# Altium integrated library Analog Devices Data Converters Analog-to-Digital Converters.IntLib: 2400 symbols (part 279 of 338)
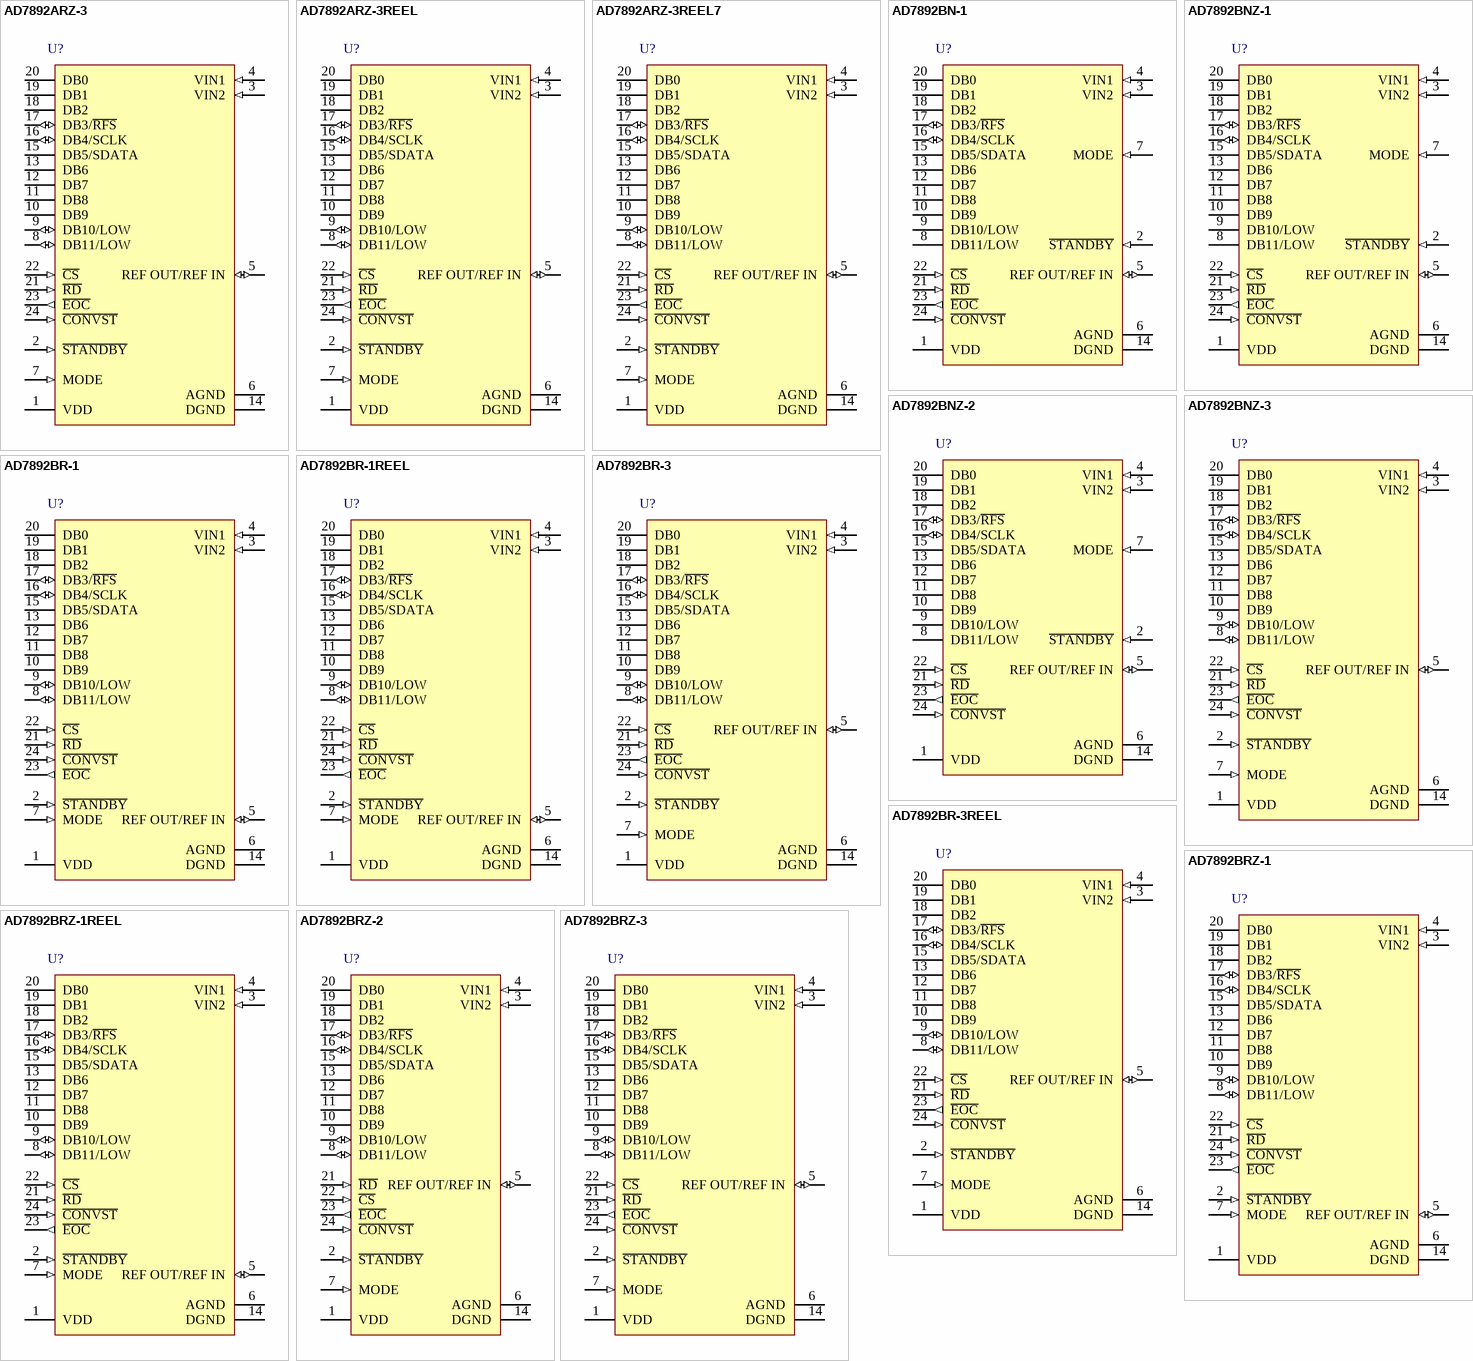
[diagram p407: symbols AD7892ARZ-3 to AD7892BRZ-3]

## AD7892BR-3
designator U?
Single 12-Bit Analog-to-Digital Converter with Parallel, Serial Interface, Single Supply, LC2MOS, 600KSPS, -40 to +85 degC, RW-24, Tube; Part Number: AD7892-3-600; Manufacturer: Analog Devices; Resolution (Bits): 12; Channels: 1; Throughput Rate (SPS): 600K; Interface: Par, Ser; DatasheetVersion: Rev.C; PackageVersion: 060706-A; PackageReference: RW-24; PackageDescription: 24-Lead Standard Small Outline Package [SOIC_W]; RoHS: N; Packing: Tube; Mounting Technology: Surface Mount; Code_JEDEC: MS-013-AD; ComponentLink1Description: Manufacturer URL; ComponentLink1URL: http://www.analog.com/en/index.html; ComponentLink2Description: Datasheet; ComponentLink2URL: http://www.analog.com/static/imported-files/data_sheets/AD7892.pdf; ComponentLink3Description: Package Specification; ComponentLink3URL: http://www.analog.com/static/imported-files/packages/33665150946139RW_24.pdf; ComponentLink4Description: Product URL; ComponentLink4URL: http://www.analog.com/en/analog-to-digital-converters/ad-converters/ad7892/products/product.html
footprint RW-24_N (SOIC, 24-Leads, Body 15.4x7.5mm, Pitch 1.27mm, IPC Medium Density)
footprint RW-24_L (SOIC, 24-Leads, Body 15.4x7.5mm, Pitch 1.27mm, IPC High Density)
footprint RW-24_M (SOIC, 24-Leads, Body 15.4x7.5mm, Pitch 1.27mm, IPC Low Density)
pins: 1 VDD (power) "Positive Supply Voltage, +5 V +/- 5%.", 2 ~{STANDBY} (in) "Standby Input. Logic Input. With this input at a logic high, the part is in its normal operating mode; with this input at a logic low, the part is placed in its standby or power-down mode, which reduces power consumption to (See Datasheet)", 3 VIN2 (in) "Analog Input 2. For the AD7892-1, this input either connects to AGND or to VIN1 to determine the analog input voltage range. With VIN2 connected to AGND on the AD7892-1, the analog input range at the VIN1 input is +/-10 V. (See Datasheet)", 4 VIN1 (in) "Analog Input 1. The analog input voltage to be converted by the AD7892 is applied to this input.For the AD7892-1, the input voltage range is either +/-5 V or +/-10 V depending on where the VIN2 input is connected. For the (See Datasheet)", 5 REF OUT/REF IN (io) "Voltage Reference Output/Input. The part can be used with either its own internal reference or with an external reference source. The on-chip +2.5 V reference is provided at this pin. When using this internal reference as (See Datasheet)", 6 AGND (power) "Analog Ground. Ground reference for track/hold, comparator and DAC.", 7 MODE (in) "Mode. Control input which determines the interface mode for the AD7892. With this pin at a logic  low, the device is in its serial interface mode; with this pin at a logic high, the device is in its parallel interface mode,", 8 DB11/LOW (io) "Data Bit 11/Test Pin. When the device is in its parallel mode, this pin is Data Bit 11 (MSB), a three-state TTL-compatible output. When the device is in its serial mode, this is used as a test pin which must be tied to a (See Datasheet)", 9 DB10/LOW (io) "Data Bit 10/Test Pin. When the device is in its parallel mode, this pin is Data Bit 10, a three-state TTL-compatible output. When the device is in its serial mode, this is used as a test pin which must be tied to a logic low (See Datasheet)", 10 DB9 (hiz) "Data Bit 9. Three-state TTL-compatible output. This output should be left unconnected when the device is in its serial mode.", 11 DB8 (hiz) "Data Bit 8. Three-state TTL-compatible output. This output should be left unconnected when the device is in its serial mode.", 12 DB7 (hiz) "Data Bit 7. Three-state TTL-compatible output. This output should be left unconnected when the device is in its serial mode.", 13 DB6 (hiz) "Data Bit 6. Three-state TTL-compatible output. This output should be left unconnected when the device is in its serial mode", 14 DGND (power) "Digital Ground. Ground reference for digital circuitry.", 15 DB5/SDATA (hiz) "Data Bit 5/Serial Data. When the device is in its parallel mode, this pin is Data Bit 5, a three-state TTL-compatible output. When the device is in its serial mode, this becomes the serial data output line. Sixteen bits of (See Datasheet)", 16 DB4/SCLK (io) "Data Bit 4/Serial Clock. When the device is in its parallel mode, this pin is Data Bit 4, a three-state TTL-compatible output. When the device is in its serial mode, this becomes the serial clock pin,SCLK. SCLK is an input (See Datasheet)", 17 DB3/~{RFS} (io) "Data Bit 3/Receive Frame Synchronization. When the device is in its parallel mode, this pin is Data Bit 3, a three-state TTL-compatible output. When the device is in its serial mode, this becomes the receive frame (See Datasheet)", 18 DB2 (hiz) "Data Bit 2. Three-state TTL-compatible output. This output should be left unconnected when the device is in its serial mode.", 19 DB1 (hiz) "Data Bit 1. Three-state TTL-compatible output. This output should be left unconnected when the device is in its serial mode.", 20 DB0 (hiz) "Data Bit 0 (LSB). Three-state TTL-compatible output. Output coding is two's complement for AD7892-1 and AD7892-3 and straight (natural) binary for AD7892-2. This output should be left unconnected when the device is in its (See Datasheet)", 21 ~{RD} (in) "Read. Active low logic input which is used in conjunction with C\S\ low to enable the data outputs.", 22 ~{CS} (in) "Chip Select. Active low logic input which is used in conjunction with R\D\ to enable the data outputs.", 23 ~{EOC} (out) "End-of-Conversion. Active low logic output indicating converter status. The end of conversion is signified by a low going pulse on this line. The duration of this E\O\C\ pulse is nominally 100 ns.", 24 ~{CONVST} (in) "Convert Start. Logic Input. A low-to-high transition on this input puts the track/hold into its hold mode and starts conversion."

## AD7892BR-3REEL
designator U?
Single 12-Bit Analog-to-Digital Converter with Parallel, Serial Interface, Single Supply, LC2MOS, 600KSPS, -40 to +85 degC, RW-24, Reel; Part Number: AD7892-3-600; Manufacturer: Analog Devices; Resolution (Bits): 12; Channels: 1; Throughput Rate (SPS): 600K; Interface: Par, Ser; DatasheetVersion: Rev.C; PackageVersion: 060706-A; PackageReference: RW-24; PackageDescription: 24-Lead Standard Small Outline Package [SOIC_W]; RoHS: N; Packing: Reel; Mounting Technology: Surface Mount; Code_JEDEC: MS-013-AD; ComponentLink1Description: Manufacturer URL; ComponentLink1URL: http://www.analog.com/en/index.html; ComponentLink2Description: Datasheet; ComponentLink2URL: http://www.analog.com/static/imported-files/data_sheets/AD7892.pdf; ComponentLink3Description: Package Specification; ComponentLink3URL: http://www.analog.com/static/imported-files/packages/33665150946139RW_24.pdf; ComponentLink4Description: Product URL; ComponentLink4URL: http://www.analog.com/en/analog-to-digital-converters/ad-converters/ad7892/products/product.html
footprint RW-24_N (SOIC, 24-Leads, Body 15.4x7.5mm, Pitch 1.27mm, IPC Medium Density)
footprint RW-24_L (SOIC, 24-Leads, Body 15.4x7.5mm, Pitch 1.27mm, IPC High Density)
footprint RW-24_M (SOIC, 24-Leads, Body 15.4x7.5mm, Pitch 1.27mm, IPC Low Density)
pins: 1 VDD (power) "Positive Supply Voltage, +5 V +/- 5%.", 2 ~{STANDBY} (in) "Standby Input. Logic Input. With this input at a logic high, the part is in its normal operating mode; with this input at a logic low, the part is placed in its standby or power-down mode, which reduces power consumption to (See Datasheet)", 3 VIN2 (in) "Analog Input 2. For the AD7892-1, this input either connects to AGND or to VIN1 to determine the analog input voltage range. With VIN2 connected to AGND on the AD7892-1, the analog input range at the VIN1 input is +/-10 V. (See Datasheet)", 4 VIN1 (in) "Analog Input 1. The analog input voltage to be converted by the AD7892 is applied to this input.For the AD7892-1, the input voltage range is either +/-5 V or +/-10 V depending on where the VIN2 input is connected. For the (See Datasheet)", 5 REF OUT/REF IN (io) "Voltage Reference Output/Input. The part can be used with either its own internal reference or with an external reference source. The on-chip +2.5 V reference is provided at this pin. When using this internal reference as (See Datasheet)", 6 AGND (power) "Analog Ground. Ground reference for track/hold, comparator and DAC.", 7 MODE (in) "Mode. Control input which determines the interface mode for the AD7892. With this pin at a logic  low, the device is in its serial interface mode; with this pin at a logic high, the device is in its parallel interface mode,", 8 DB11/LOW (io) "Data Bit 11/Test Pin. When the device is in its parallel mode, this pin is Data Bit 11 (MSB), a three-state TTL-compatible output. When the device is in its serial mode, this is used as a test pin which must be tied to a (See Datasheet)", 9 DB10/LOW (io) "Data Bit 10/Test Pin. When the device is in its parallel mode, this pin is Data Bit 10, a three-state TTL-compatible output. When the device is in its serial mode, this is used as a test pin which must be tied to a logic low (See Datasheet)", 10 DB9 (hiz) "Data Bit 9. Three-state TTL-compatible output. This output should be left unconnected when the device is in its serial mode.", 11 DB8 (hiz) "Data Bit 8. Three-state TTL-compatible output. This output should be left unconnected when the device is in its serial mode.", 12 DB7 (hiz) "Data Bit 7. Three-state TTL-compatible output. This output should be left unconnected when the device is in its serial mode.", 13 DB6 (hiz) "Data Bit 6. Three-state TTL-compatible output. This output should be left unconnected when the device is in its serial mode", 14 DGND (power) "Digital Ground. Ground reference for digital circuitry.", 15 DB5/SDATA (hiz) "Data Bit 5/Serial Data. When the device is in its parallel mode, this pin is Data Bit 5, a three-state TTL-compatible output. When the device is in its serial mode, this becomes the serial data output line. Sixteen bits of (See Datasheet)", 16 DB4/SCLK (io) "Data Bit 4/Serial Clock. When the device is in its parallel mode, this pin is Data Bit 4, a three-state TTL-compatible output. When the device is in its serial mode, this becomes the serial clock pin,SCLK. SCLK is an input (See Datasheet)", 17 DB3/~{RFS} (io) "Data Bit 3/Receive Frame Synchronization. When the device is in its parallel mode, this pin is Data Bit 3, a three-state TTL-compatible output. When the device is in its serial mode, this becomes the receive frame (See Datasheet)", 18 DB2 (hiz) "Data Bit 2. Three-state TTL-compatible output. This output should be left unconnected when the device is in its serial mode.", 19 DB1 (hiz) "Data Bit 1. Three-state TTL-compatible output. This output should be left unconnected when the device is in its serial mode.", 20 DB0 (hiz) "Data Bit 0 (LSB). Three-state TTL-compatible output. Output coding is two's complement for AD7892-1 and AD7892-3 and straight (natural) binary for AD7892-2. This output should be left unconnected when the device is in its (See Datasheet)", 21 ~{RD} (in) "Read. Active low logic input which is used in conjunction with C\S\ low to enable the data outputs.", 22 ~{CS} (in) "Chip Select. Active low logic input which is used in conjunction with R\D\ to enable the data outputs.", 23 ~{EOC} (out) "End-of-Conversion. Active low logic output indicating converter status. The end of conversion is signified by a low going pulse on this line. The duration of this E\O\C\ pulse is nominally 100 ns.", 24 ~{CONVST} (in) "Convert Start. Logic Input. A low-to-high transition on this input puts the track/hold into its hold mode and starts conversion."